# EAGLE library part WURTH_WE-LAN_749020010 (library Traficon)
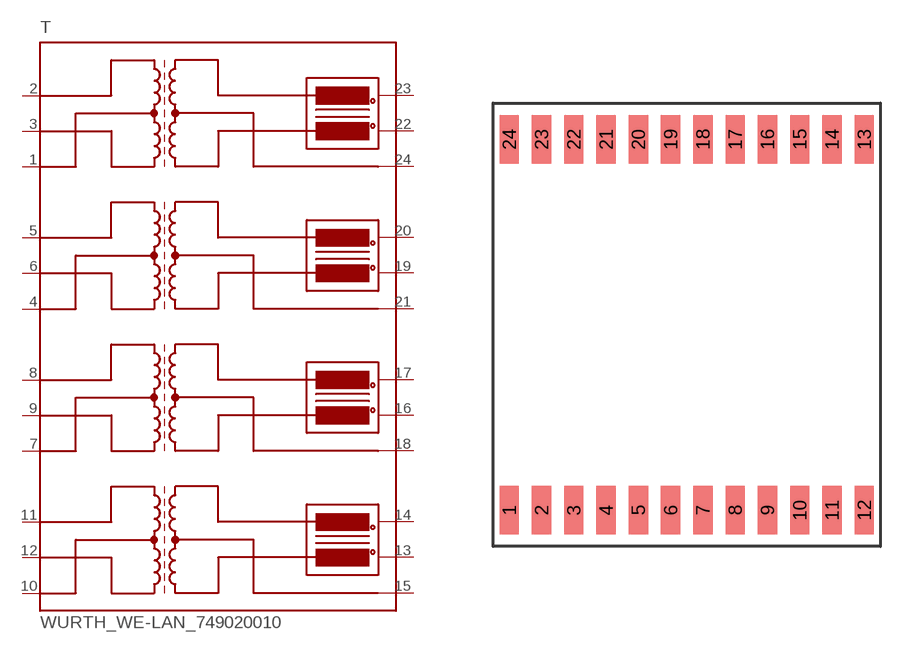
[diagram p242: symbol with the pads of WURTH_WE-LAN_749020010; footprint WURTH_WE-LAN_749020010]

Designator prefix T

## WURTH_WE-LAN_749020010  [WURTH_WE-LAN_749020010]
1  TDCT1  pas
2  +TD1  pas
3  -TD1  pas
4  RDCT2  pas
5  +RD2  pas
6  -RD2  pas
7  TDCT3  pas
8  +TD3  pas
9  -TD3  pas
10  RDCT4  pas
11  +RD4  pas
12  -RD4  pas
13  -RX4  pas
14  +RX4  pas
15  RXCT4  pas
16  -TX3  pas
17  +TX3  pas
18  TXCT3  pas
19  -RX2  pas
20  +RX2  pas
21  RXCT2  pas
22  -TX1  pas
23  +TX1  pas
24  TXCT1  pas

## Footprint WURTH_WE-LAN_749020010 (pad centres in mm)
smd 0.76 x 1.905: 1 -6.985,-7.303; 2 -5.715,-7.303; 3 -4.445,-7.303; 4 -3.175,-7.303; 5 -1.905,-7.303; 6 -0.635,-7.303; 7 0.635,-7.303; 8 1.905,-7.303; 9 3.175,-7.303; 10 4.445,-7.303; 11 5.715,-7.303; 12 6.985,-7.303; 13 6.985,7.303; 14 5.715,7.303; 15 4.445,7.303; 16 3.175,7.303; 17 1.905,7.303; 18 0.635,7.303; 19 -0.635,7.303; 20 -1.905,7.303; 21 -3.175,7.303; 22 -4.445,7.303; 23 -5.715,7.303; 24 -6.985,7.303